# EAGLE library part PIC16C54C-04/P (library PIC)
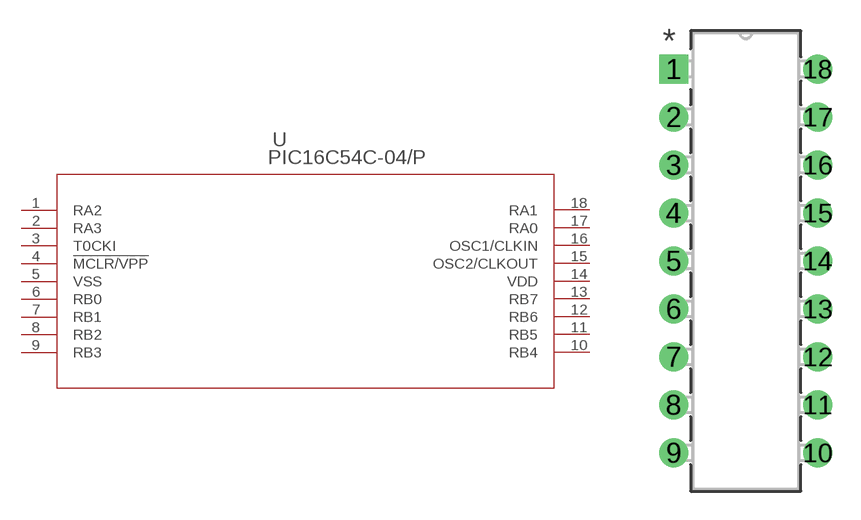
[diagram p0: symbol with the pads of PDIP18_300MC_MCH; footprint PDIP18_300MC_MCH]

Designator prefix U

## PIC16C54C-04/P (BUILT_BY: EMA_UL_Team; MANUFACTURER_PART_NUMBER: PIC16C54C-04/P; SOURCELIBRARY: Microchip_2011-04-01; VENDOR: Microchip)  [PDIP18_300MC_MCH]
1  RA2
2  RA3
3  T0CKI
4  !MCLR/VPP  in
5  VSS  pas
6  RB0
7  RB1
8  RB2
9  RB3
10  RB4
11  RB5
12  RB6
13  RB7
14  VDD  pas
15  OSC2/CLKOUT  out
16  OSC1/CLKIN  in
17  RA0
18  RA1

## Footprint PDIP18_300MC_MCH (pad centres in mm)
drill 0.813 pad 1.524 square: 1 0,0
drill 0.813 pad 1.524: 2 0,-2.54; 3 0,-5.08; 4 0,-7.62; 5 0,-10.16; 6 0,-12.7; 7 0,-15.24; 8 0,-17.78; 9 0,-20.32; 10 7.62,-20.32; 11 7.62,-17.78; 12 7.62,-15.24; 13 7.62,-12.7; 14 7.62,-10.16; 15 7.62,-7.62; 16 7.62,-5.08; 17 7.62,-2.54; 18 7.62,0